# Altium integrated library Linear Technology Power Management Switching Regulator LTC1174-LTC3901.IntLib: 2647 symbols (part 42 of 364)
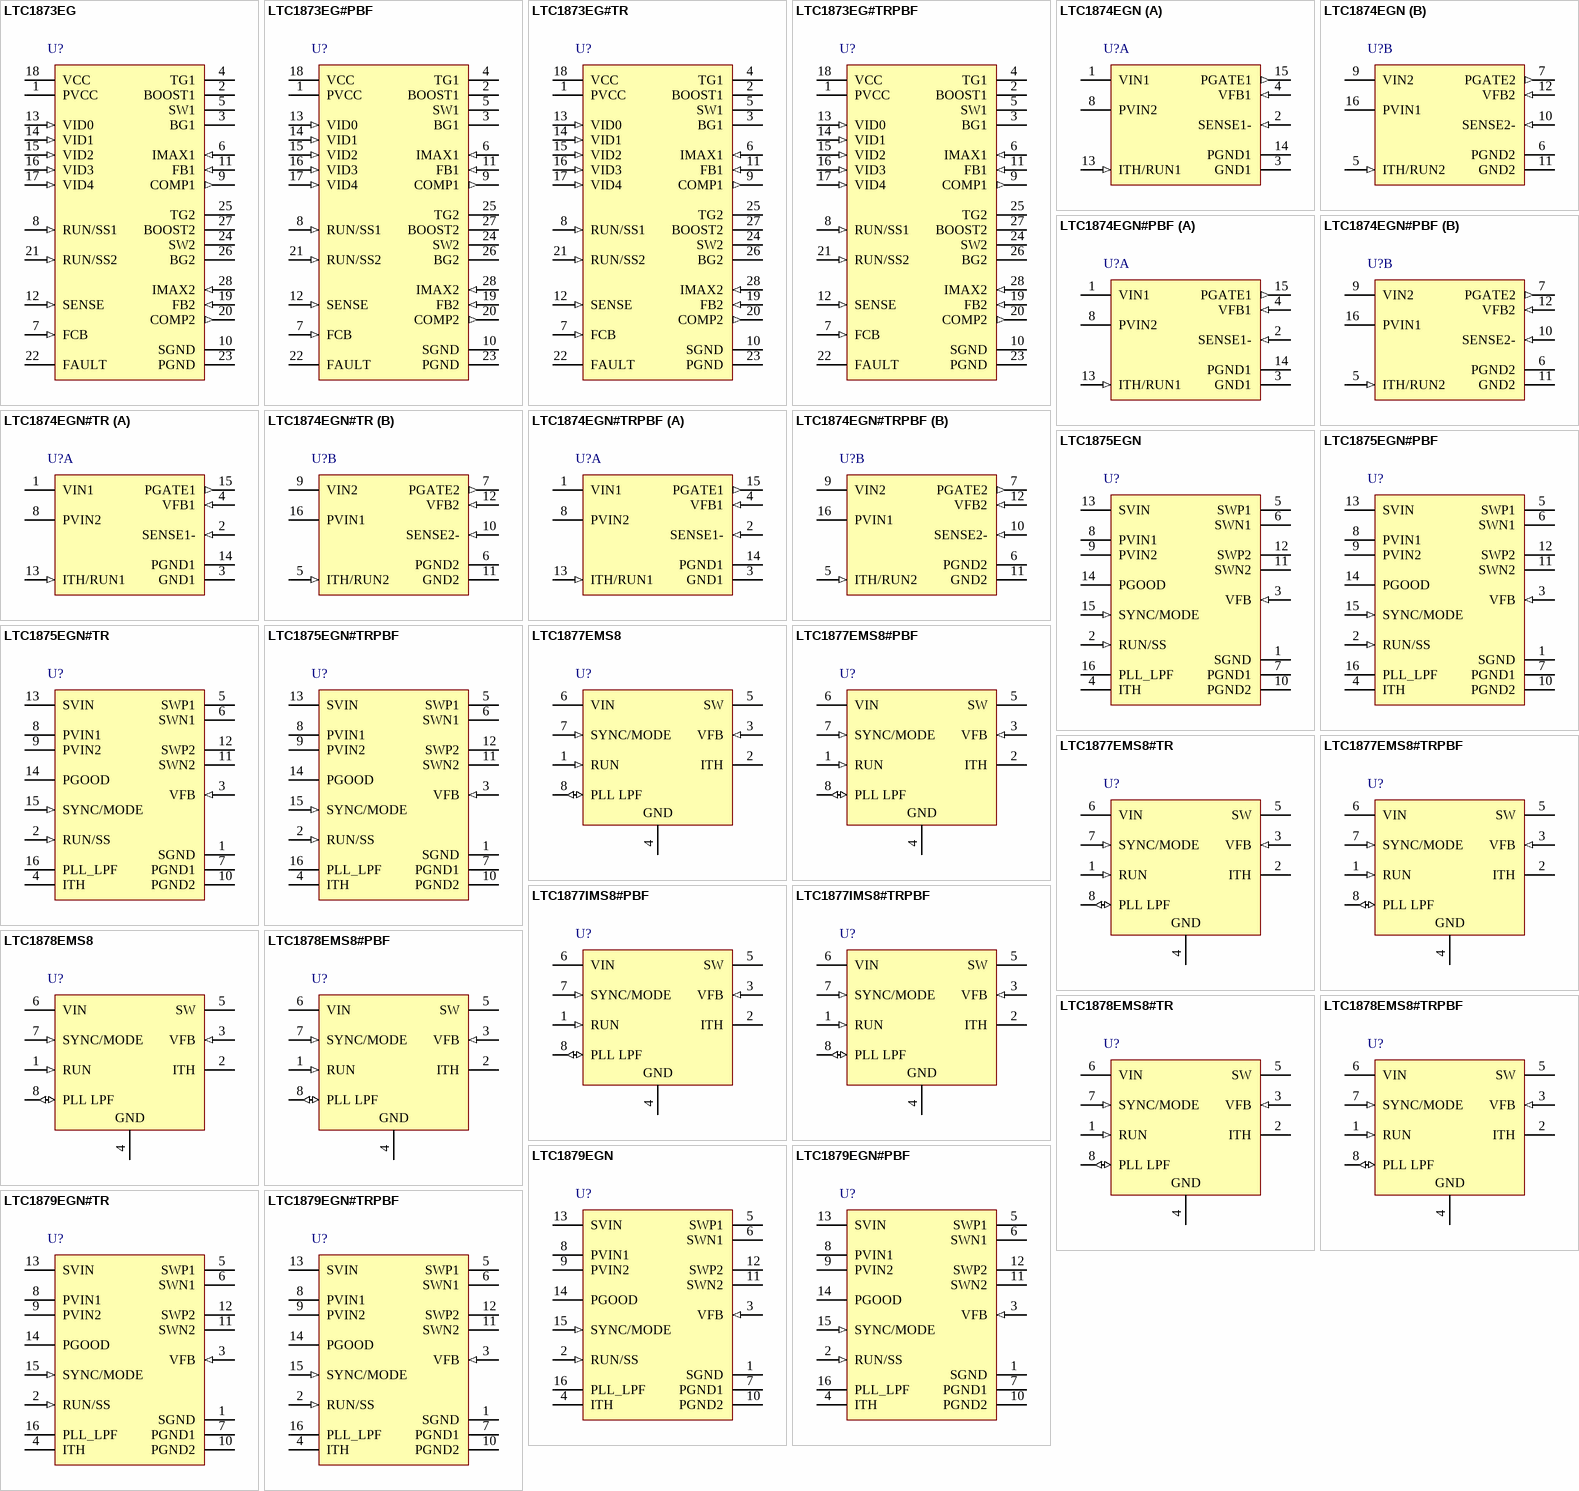
[diagram p137: symbols LTC1873EG to LTC1879EGN#TRPBF]

## LTC1878EMS8
designator U?
High Efficiency Monolithic Synchronous Step-Down Regulator, 8-pin SOP (MS8-8), -40 to 85 degC; Manufacturer: Linear Technology; PartNumber: LTC1878EMS8; Frequency Sync Range: 400kHz - 700kHz; Number of Outputs: 1; PackageVersion: Rev. G, 05/2013; PackageReference: MS8; PackageDescription: 8-Pin Plastic MSOP, Body 3 x 3 mm, Pitch 0.65 mm; Supplier 1: Digi-Key; Supplier Part Number 1: LTC1878EMS8-ND; Supplier 2: Newark; Supplier Part Number 2: 56M4299; RoHS: FALSE; Mounting Technology: Surface Mount; ComponentLink1Description: Manufacturer URL; ComponentLink1URL: http://www.linear.com/; ComponentLink2Description: Datasheet; ComponentLink2URL: http://cds.linear.com/docs/en/datasheet/1878f.pdf; ComponentLink3Description: Package Specification; ComponentLink3URL: http://cds.linear.com/docs/en/packaging/05081660_G_MS8.pdf
footprint LT-MS8_N (SOP, 8-Leads, Body 3.1x3.1mm, Pitch 0.65mm, IPC Medium Density)
footprint LT-MS8_L (SOP, 8-Leads, Body 3.1x3.1mm, Pitch 0.65mm, IPC High Density)
footprint LT-MS8_M (SOP, 8-Leads, Body 3.1x3.1mm, Pitch 0.65mm, IPC Low Density)
pins: 1 RUN (in), 2 ITH "Error Amplifier Compensation Point. The current comparator threshold increases with this control voltage. Nominal voltage range for this pin is from 0.5V to 1.9V", 3 VFB (in) "Feedback Pin. Receives the feedback voltage from an external resistive divider across the output.", 4 GND (power) "Ground Pin.", 5 SW (power) "Switch Node Connection to Inductor. This pin connects to the drains of the internal main and synchronous power MOSFET switches.", 6 VIN (power) "Main Supply Pin. Must be closely decoupled to GND, Pin 4.", 7 SYNC/MODE (in), 8 PLL LPF (io) "Output of the Phase Detector and Control Input of Oscillator. Connect a series RC lowpass network from this pin to ground if externally synchronized. If unused, this pin may be left open."

## LTC1878EMS8#PBF
designator U?
High Efficiency Monolithic Synchronous Step-Down Regulator, 8-pin SOP (MS8-8), -40 to 85 degC, Pb-Free; Manufacturer: Linear Technology; PartNumber: LTC1878EMS8#PBF; Frequency Sync Range: 400kHz - 700kHz; Number of Outputs: 1; PackageVersion: Rev. G, 05/2013; PackageReference: MS8; PackageDescription: 8-Pin Plastic MSOP, Body 3 x 3 mm, Pitch 0.65 mm; Supplier 1: Digi-Key; Supplier Part Number 1: LTC1878EMS8#PBF-ND; Supplier 2: Farnell; Supplier Part Number 2: 1273918; Supplier 3: Newark; Supplier Part Number 3: 56M4300; RoHS: TRUE; Mounting Technology: Surface Mount; ComponentLink1Description: Manufacturer URL; ComponentLink1URL: http://www.linear.com/; ComponentLink2Description: Datasheet; ComponentLink2URL: http://cds.linear.com/docs/en/datasheet/1878f.pdf; ComponentLink3Description: Package Specification; ComponentLink3URL: http://cds.linear.com/docs/en/packaging/05081660_G_MS8.pdf
footprint LT-MS8_N (SOP, 8-Leads, Body 3.1x3.1mm, Pitch 0.65mm, IPC Medium Density)
footprint LT-MS8_L (SOP, 8-Leads, Body 3.1x3.1mm, Pitch 0.65mm, IPC High Density)
footprint LT-MS8_M (SOP, 8-Leads, Body 3.1x3.1mm, Pitch 0.65mm, IPC Low Density)
pins: 1 RUN (in), 2 ITH "Error Amplifier Compensation Point. The current comparator threshold increases with this control voltage. Nominal voltage range for this pin is from 0.5V to 1.9V", 3 VFB (in) "Feedback Pin. Receives the feedback voltage from an external resistive divider across the output.", 4 GND (power) "Ground Pin.", 5 SW (power) "Switch Node Connection to Inductor. This pin connects to the drains of the internal main and synchronous power MOSFET switches.", 6 VIN (power) "Main Supply Pin. Must be closely decoupled to GND, Pin 4.", 7 SYNC/MODE (in), 8 PLL LPF (io) "Output of the Phase Detector and Control Input of Oscillator. Connect a series RC lowpass network from this pin to ground if externally synchronized. If unused, this pin may be left open."

## LTC1878EMS8#TR
designator U?
High Efficiency Monolithic Synchronous Step-Down Regulator, 8-pin SOP (MS8-8), -40 to 85 degC, Tape and Reel; Manufacturer: Linear Technology; PartNumber: LTC1878EMS8#TR; Frequency Sync Range: 400kHz - 700kHz; Number of Outputs: 1; PackageVersion: Rev. G, 05/2013; PackageReference: MS8; PackageDescription: 8-Pin Plastic MSOP, Body 3 x 3 mm, Pitch 0.65 mm; Supplier 1: Digi-Key; Supplier Part Number 1: LTC1878EMS8TR-ND; Packing: Tape and Reel; RoHS: FALSE; Mounting Technology: Surface Mount; ComponentLink1Description: Manufacturer URL; ComponentLink1URL: http://www.linear.com/; ComponentLink2Description: Datasheet; ComponentLink2URL: http://cds.linear.com/docs/en/datasheet/1878f.pdf; ComponentLink3Description: Package Specification; ComponentLink3URL: http://cds.linear.com/docs/en/packaging/05081660_G_MS8.pdf
footprint LT-MS8_N (SOP, 8-Leads, Body 3.1x3.1mm, Pitch 0.65mm, IPC Medium Density)
footprint LT-MS8_L (SOP, 8-Leads, Body 3.1x3.1mm, Pitch 0.65mm, IPC High Density)
footprint LT-MS8_M (SOP, 8-Leads, Body 3.1x3.1mm, Pitch 0.65mm, IPC Low Density)
pins: 1 RUN (in), 2 ITH "Error Amplifier Compensation Point. The current comparator threshold increases with this control voltage. Nominal voltage range for this pin is from 0.5V to 1.9V", 3 VFB (in) "Feedback Pin. Receives the feedback voltage from an external resistive divider across the output.", 4 GND (power) "Ground Pin.", 5 SW (power) "Switch Node Connection to Inductor. This pin connects to the drains of the internal main and synchronous power MOSFET switches.", 6 VIN (power) "Main Supply Pin. Must be closely decoupled to GND, Pin 4.", 7 SYNC/MODE (in), 8 PLL LPF (io) "Output of the Phase Detector and Control Input of Oscillator. Connect a series RC lowpass network from this pin to ground if externally synchronized. If unused, this pin may be left open."

## LTC1878EMS8#TRPBF
designator U?
High Efficiency Monolithic Synchronous Step-Down Regulator, 8-pin SOP (MS8-8), -40 to 85 degC, Pb-Free, Tape and Reel; Manufacturer: Linear Technology; PartNumber: LTC1878EMS8#TRPBF; Frequency Sync Range: 400kHz - 700kHz; Number of Outputs: 1; PackageVersion: Rev. G, 05/2013; PackageReference: MS8; PackageDescription: 8-Pin Plastic MSOP, Body 3 x 3 mm, Pitch 0.65 mm; Supplier 1: Digi-Key; Supplier Part Number 1: LTC1878EMS8#TRPBF-ND; Supplier 2: Newark; Supplier Part Number 2: 56M4302; Packing: Tape and Reel; RoHS: TRUE; Mounting Technology: Surface Mount; ComponentLink1Description: Manufacturer URL; ComponentLink1URL: http://www.linear.com/; ComponentLink2Description: Datasheet; ComponentLink2URL: http://cds.linear.com/docs/en/datasheet/1878f.pdf; ComponentLink3Description: Package Specification; ComponentLink3URL: http://cds.linear.com/docs/en/packaging/05081660_G_MS8.pdf
footprint LT-MS8_N (SOP, 8-Leads, Body 3.1x3.1mm, Pitch 0.65mm, IPC Medium Density)
footprint LT-MS8_L (SOP, 8-Leads, Body 3.1x3.1mm, Pitch 0.65mm, IPC High Density)
footprint LT-MS8_M (SOP, 8-Leads, Body 3.1x3.1mm, Pitch 0.65mm, IPC Low Density)
pins: 1 RUN (in), 2 ITH "Error Amplifier Compensation Point. The current comparator threshold increases with this control voltage. Nominal voltage range for this pin is from 0.5V to 1.9V", 3 VFB (in) "Feedback Pin. Receives the feedback voltage from an external resistive divider across the output.", 4 GND (power) "Ground Pin.", 5 SW (power) "Switch Node Connection to Inductor. This pin connects to the drains of the internal main and synchronous power MOSFET switches.", 6 VIN (power) "Main Supply Pin. Must be closely decoupled to GND, Pin 4.", 7 SYNC/MODE (in), 8 PLL LPF (io) "Output of the Phase Detector and Control Input of Oscillator. Connect a series RC lowpass network from this pin to ground if externally synchronized. If unused, this pin may be left open."

## LTC1879EGN
designator U?
1.2 A Synchronous Step-Down Regulator with 15 uA Quiescent Current, 16-pin SOP (GN-16), -40 to 85 degC; Manufacturer: Linear Technology; PartNumber: LTC1879EGN; Frequency Sync Range: 350kHz - 750kHz; Number of Outputs: 1; PackageVersion: Rev. B, 03/2012; PackageReference: GN-16; PackageDescription: 16-Pin Plastic SSOP, Body 4.9 x 3.9 mm, Pitch 0.635 mm; Supplier 1: Digi-Key; Supplier Part Number 1: LTC1879EGN-ND; RoHS: FALSE; Mounting Technology: Surface Mount; ComponentLink1Description: Manufacturer URL; ComponentLink1URL: http://www.linear.com/; ComponentLink2Description: Datasheet; ComponentLink2URL: http://cds.linear.com/docs/en/datasheet/1879f.pdf; ComponentLink3Description: Package Specification; ComponentLink3URL: http://cds.linear.com/docs/en/packaging/05081641_B_GN16.pdf
footprint LT-GN-16_N (SOP, 16-Leads, Body 5x4mm, Pitch 0.635mm, IPC Medium Density)
footprint LT-GN-16_L (SOP, 16-Leads, Body 5x4mm, Pitch 0.635mm, IPC High Density)
footprint LT-GN-16_M (SOP, 16-Leads, Body 5x4mm, Pitch 0.635mm, IPC Low Density)
pins: 1 SGND (power) "Signal Ground Pin.", 2 RUN/SS (in) "Combination of Soft-Start and Run Control Inputs. Forcing this pin below 0.7V shuts down the device. In shutdown all functions are disabled and device draws zero supply current. For the proper operation of the part, force (See Datasheet)", 3 VFB (in) "Feedback Pin. Receives the feedback voltage from an external resistor divider across the output.", 4 ITH "Error Amplifier Compensation Point. The current output increases with this control voltage. Nominal voltage range for this pin is 0.5V to 1.8V.", 5 SWP1 (power) "Upper Switch Nodes. These pins connect to the drains of the internal main PMOS switches and should always be connected together externally.", 6 SWN1 (power) "Lower Switch Nodes. These pins connect to the drains of the internal synchronous NMOS switches and should always be connected together externally.", 7 PGND1 (power) "Power Ground Pins. Ground pins for the internal drivers and switches. These pins should always be tied together.", 8 PVIN1 (power) "Power Supply Pins for the Internal Drivers and Switches. These pins should always be tied together.", 9 PVIN2 (power) "Power Supply Pins for the Internal Drivers and Switches. These pins should always be tied together.", 10 PGND2 (power) "Power Ground Pins. Ground pins for the internal drivers and switches. These pins should always be tied together.", 11 SWN2 (power) "Lower Switch Nodes. These pins connect to the drains of the internal synchronous NMOS switches and should always be connected together externally.", 12 SWP2 (power) "Upper Switch Nodes. These pins connect to the drains of the internal main PMOS switches and should always be connected together externally.", 13 SVIN (power) "Signal Power Supply Pin.", 14 PGOOD (oc) "Power Good Indicator Pin. Power good is an open-drain logic output. The PGOOD pin is pulled to ground when the voltage on the VFB pin is not within +/-7.5% of its nominally regulated potential. This pin requires a pull-up (See Datasheet)", 15 SYNC/MODE (in) "External Clock Synchronization and Mode Select Input. To synchronize, apply an external clock with a frequency between 350kHz and 750kHz. To select Burst Mode operation, tie pin to SVIN. Grounding this pin selects pulse (See Datasheet)", 16 PLL_LPF "Output of the Phase Detector and Control Input of Oscillator. Connect a series RC lowpass network from this pin to ground if externally synchronized. If unused, this pin may be left open."

## LTC1879EGN#PBF
designator U?
1.2 A Synchronous Step-Down Regulator with 15 uA Quiescent Current, 16-pin SOP (GN-16), -40 to 85 degC, Pb-Free; Manufacturer: Linear Technology; PartNumber: LTC1879EGN#PBF; Frequency Sync Range: 350kHz - 750kHz; Number of Outputs: 1; PackageVersion: Rev. B, 03/2012; PackageReference: GN-16; PackageDescription: 16-Pin Plastic SSOP, Body 4.9 x 3.9 mm, Pitch 0.635 mm; Supplier 1: Digi-Key; Supplier Part Number 1: LTC1879EGN#PBF-ND; Supplier 2: Farnell; Supplier Part Number 2: 1273919; Supplier 3: Newark; Supplier Part Number 3: 56M4304; RoHS: TRUE; Mounting Technology: Surface Mount; ComponentLink1Description: Manufacturer URL; ComponentLink1URL: http://www.linear.com/; ComponentLink2Description: Datasheet; ComponentLink2URL: http://cds.linear.com/docs/en/datasheet/1879f.pdf; ComponentLink3Description: Package Specification; ComponentLink3URL: http://cds.linear.com/docs/en/packaging/05081641_B_GN16.pdf
footprint LT-GN-16_N (SOP, 16-Leads, Body 5x4mm, Pitch 0.635mm, IPC Medium Density)
footprint LT-GN-16_L (SOP, 16-Leads, Body 5x4mm, Pitch 0.635mm, IPC High Density)
footprint LT-GN-16_M (SOP, 16-Leads, Body 5x4mm, Pitch 0.635mm, IPC Low Density)
pins: 1 SGND (power) "Signal Ground Pin.", 2 RUN/SS (in) "Combination of Soft-Start and Run Control Inputs. Forcing this pin below 0.7V shuts down the device. In shutdown all functions are disabled and device draws zero supply current. For the proper operation of the part, force (See Datasheet)", 3 VFB (in) "Feedback Pin. Receives the feedback voltage from an external resistor divider across the output.", 4 ITH "Error Amplifier Compensation Point. The current output increases with this control voltage. Nominal voltage range for this pin is 0.5V to 1.8V.", 5 SWP1 (power) "Upper Switch Nodes. These pins connect to the drains of the internal main PMOS switches and should always be connected together externally.", 6 SWN1 (power) "Lower Switch Nodes. These pins connect to the drains of the internal synchronous NMOS switches and should always be connected together externally.", 7 PGND1 (power) "Power Ground Pins. Ground pins for the internal drivers and switches. These pins should always be tied together.", 8 PVIN1 (power) "Power Supply Pins for the Internal Drivers and Switches. These pins should always be tied together.", 9 PVIN2 (power) "Power Supply Pins for the Internal Drivers and Switches. These pins should always be tied together.", 10 PGND2 (power) "Power Ground Pins. Ground pins for the internal drivers and switches. These pins should always be tied together.", 11 SWN2 (power) "Lower Switch Nodes. These pins connect to the drains of the internal synchronous NMOS switches and should always be connected together externally.", 12 SWP2 (power) "Upper Switch Nodes. These pins connect to the drains of the internal main PMOS switches and should always be connected together externally.", 13 SVIN (power) "Signal Power Supply Pin.", 14 PGOOD (oc) "Power Good Indicator Pin. Power good is an open-drain logic output. The PGOOD pin is pulled to ground when the voltage on the VFB pin is not within +/-7.5% of its nominally regulated potential. This pin requires a pull-up (See Datasheet)", 15 SYNC/MODE (in) "External Clock Synchronization and Mode Select Input. To synchronize, apply an external clock with a frequency between 350kHz and 750kHz. To select Burst Mode operation, tie pin to SVIN. Grounding this pin selects pulse (See Datasheet)", 16 PLL_LPF "Output of the Phase Detector and Control Input of Oscillator. Connect a series RC lowpass network from this pin to ground if externally synchronized. If unused, this pin may be left open."

## LTC1879EGN#TR
designator U?
1.2 A Synchronous Step-Down Regulator with 15 uA Quiescent Current, 16-pin SOP (GN-16), -40 to 85 degC, Tape and Reel; Manufacturer: Linear Technology; PartNumber: LTC1879EGN#TR; Frequency Sync Range: 350kHz - 750kHz; Number of Outputs: 1; PackageVersion: Rev. B, 03/2012; PackageReference: GN-16; PackageDescription: 16-Pin Plastic SSOP, Body 4.9 x 3.9 mm, Pitch 0.635 mm; Supplier 1: Digi-Key; Supplier Part Number 1: LTC1879EGNTR-ND; Packing: Tape and Reel; RoHS: FALSE; Mounting Technology: Surface Mount; ComponentLink1Description: Manufacturer URL; ComponentLink1URL: http://www.linear.com/; ComponentLink2Description: Datasheet; ComponentLink2URL: http://cds.linear.com/docs/en/datasheet/1879f.pdf; ComponentLink3Description: Package Specification; ComponentLink3URL: http://cds.linear.com/docs/en/packaging/05081641_B_GN16.pdf
footprint LT-GN-16_N (SOP, 16-Leads, Body 5x4mm, Pitch 0.635mm, IPC Medium Density)
footprint LT-GN-16_L (SOP, 16-Leads, Body 5x4mm, Pitch 0.635mm, IPC High Density)
footprint LT-GN-16_M (SOP, 16-Leads, Body 5x4mm, Pitch 0.635mm, IPC Low Density)
pins: 1 SGND (power) "Signal Ground Pin.", 2 RUN/SS (in) "Combination of Soft-Start and Run Control Inputs. Forcing this pin below 0.7V shuts down the device. In shutdown all functions are disabled and device draws zero supply current. For the proper operation of the part, force (See Datasheet)", 3 VFB (in) "Feedback Pin. Receives the feedback voltage from an external resistor divider across the output.", 4 ITH "Error Amplifier Compensation Point. The current output increases with this control voltage. Nominal voltage range for this pin is 0.5V to 1.8V.", 5 SWP1 (power) "Upper Switch Nodes. These pins connect to the drains of the internal main PMOS switches and should always be connected together externally.", 6 SWN1 (power) "Lower Switch Nodes. These pins connect to the drains of the internal synchronous NMOS switches and should always be connected together externally.", 7 PGND1 (power) "Power Ground Pins. Ground pins for the internal drivers and switches. These pins should always be tied together.", 8 PVIN1 (power) "Power Supply Pins for the Internal Drivers and Switches. These pins should always be tied together.", 9 PVIN2 (power) "Power Supply Pins for the Internal Drivers and Switches. These pins should always be tied together.", 10 PGND2 (power) "Power Ground Pins. Ground pins for the internal drivers and switches. These pins should always be tied together.", 11 SWN2 (power) "Lower Switch Nodes. These pins connect to the drains of the internal synchronous NMOS switches and should always be connected together externally.", 12 SWP2 (power) "Upper Switch Nodes. These pins connect to the drains of the internal main PMOS switches and should always be connected together externally.", 13 SVIN (power) "Signal Power Supply Pin.", 14 PGOOD (oc) "Power Good Indicator Pin. Power good is an open-drain logic output. The PGOOD pin is pulled to ground when the voltage on the VFB pin is not within +/-7.5% of its nominally regulated potential. This pin requires a pull-up (See Datasheet)", 15 SYNC/MODE (in) "External Clock Synchronization and Mode Select Input. To synchronize, apply an external clock with a frequency between 350kHz and 750kHz. To select Burst Mode operation, tie pin to SVIN. Grounding this pin selects pulse (See Datasheet)", 16 PLL_LPF "Output of the Phase Detector and Control Input of Oscillator. Connect a series RC lowpass network from this pin to ground if externally synchronized. If unused, this pin may be left open."

## LTC1879EGN#TRPBF
designator U?
1.2 A Synchronous Step-Down Regulator with 15 uA Quiescent Current, 16-pin SOP (GN-16), -40 to 85 degC, Pb-Free, Tape and Reel; Manufacturer: Linear Technology; PartNumber: LTC1879EGN#TRPBF; Frequency Sync Range: 350kHz - 750kHz; Number of Outputs: 1; PackageVersion: Rev. B, 03/2012; PackageReference: GN-16; PackageDescription: 16-Pin Plastic SSOP, Body 4.9 x 3.9 mm, Pitch 0.635 mm; Supplier 1: Digi-Key; Supplier Part Number 1: LTC1879EGN#TRPBF-ND; Supplier 2: Newark; Supplier Part Number 2: 56M4306; Packing: Tape and Reel; RoHS: TRUE; Mounting Technology: Surface Mount; ComponentLink1Description: Manufacturer URL; ComponentLink1URL: http://www.linear.com/; ComponentLink2Description: Datasheet; ComponentLink2URL: http://cds.linear.com/docs/en/datasheet/1879f.pdf; ComponentLink3Description: Package Specification; ComponentLink3URL: http://cds.linear.com/docs/en/packaging/05081641_B_GN16.pdf
footprint LT-GN-16_N (SOP, 16-Leads, Body 5x4mm, Pitch 0.635mm, IPC Medium Density)
footprint LT-GN-16_L (SOP, 16-Leads, Body 5x4mm, Pitch 0.635mm, IPC High Density)
footprint LT-GN-16_M (SOP, 16-Leads, Body 5x4mm, Pitch 0.635mm, IPC Low Density)
pins: 1 SGND (power) "Signal Ground Pin.", 2 RUN/SS (in) "Combination of Soft-Start and Run Control Inputs. Forcing this pin below 0.7V shuts down the device. In shutdown all functions are disabled and device draws zero supply current. For the proper operation of the part, force (See Datasheet)", 3 VFB (in) "Feedback Pin. Receives the feedback voltage from an external resistor divider across the output.", 4 ITH "Error Amplifier Compensation Point. The current output increases with this control voltage. Nominal voltage range for this pin is 0.5V to 1.8V.", 5 SWP1 (power) "Upper Switch Nodes. These pins connect to the drains of the internal main PMOS switches and should always be connected together externally.", 6 SWN1 (power) "Lower Switch Nodes. These pins connect to the drains of the internal synchronous NMOS switches and should always be connected together externally.", 7 PGND1 (power) "Power Ground Pins. Ground pins for the internal drivers and switches. These pins should always be tied together.", 8 PVIN1 (power) "Power Supply Pins for the Internal Drivers and Switches. These pins should always be tied together.", 9 PVIN2 (power) "Power Supply Pins for the Internal Drivers and Switches. These pins should always be tied together.", 10 PGND2 (power) "Power Ground Pins. Ground pins for the internal drivers and switches. These pins should always be tied together.", 11 SWN2 (power) "Lower Switch Nodes. These pins connect to the drains of the internal synchronous NMOS switches and should always be connected together externally.", 12 SWP2 (power) "Upper Switch Nodes. These pins connect to the drains of the internal main PMOS switches and should always be connected together externally.", 13 SVIN (power) "Signal Power Supply Pin.", 14 PGOOD (oc) "Power Good Indicator Pin. Power good is an open-drain logic output. The PGOOD pin is pulled to ground when the voltage on the VFB pin is not within +/-7.5% of its nominally regulated potential. This pin requires a pull-up (See Datasheet)", 15 SYNC/MODE (in) "External Clock Synchronization and Mode Select Input. To synchronize, apply an external clock with a frequency between 350kHz and 750kHz. To select Burst Mode operation, tie pin to SVIN. Grounding this pin selects pulse (See Datasheet)", 16 PLL_LPF "Output of the Phase Detector and Control Input of Oscillator. Connect a series RC lowpass network from this pin to ground if externally synchronized. If unused, this pin may be left open."

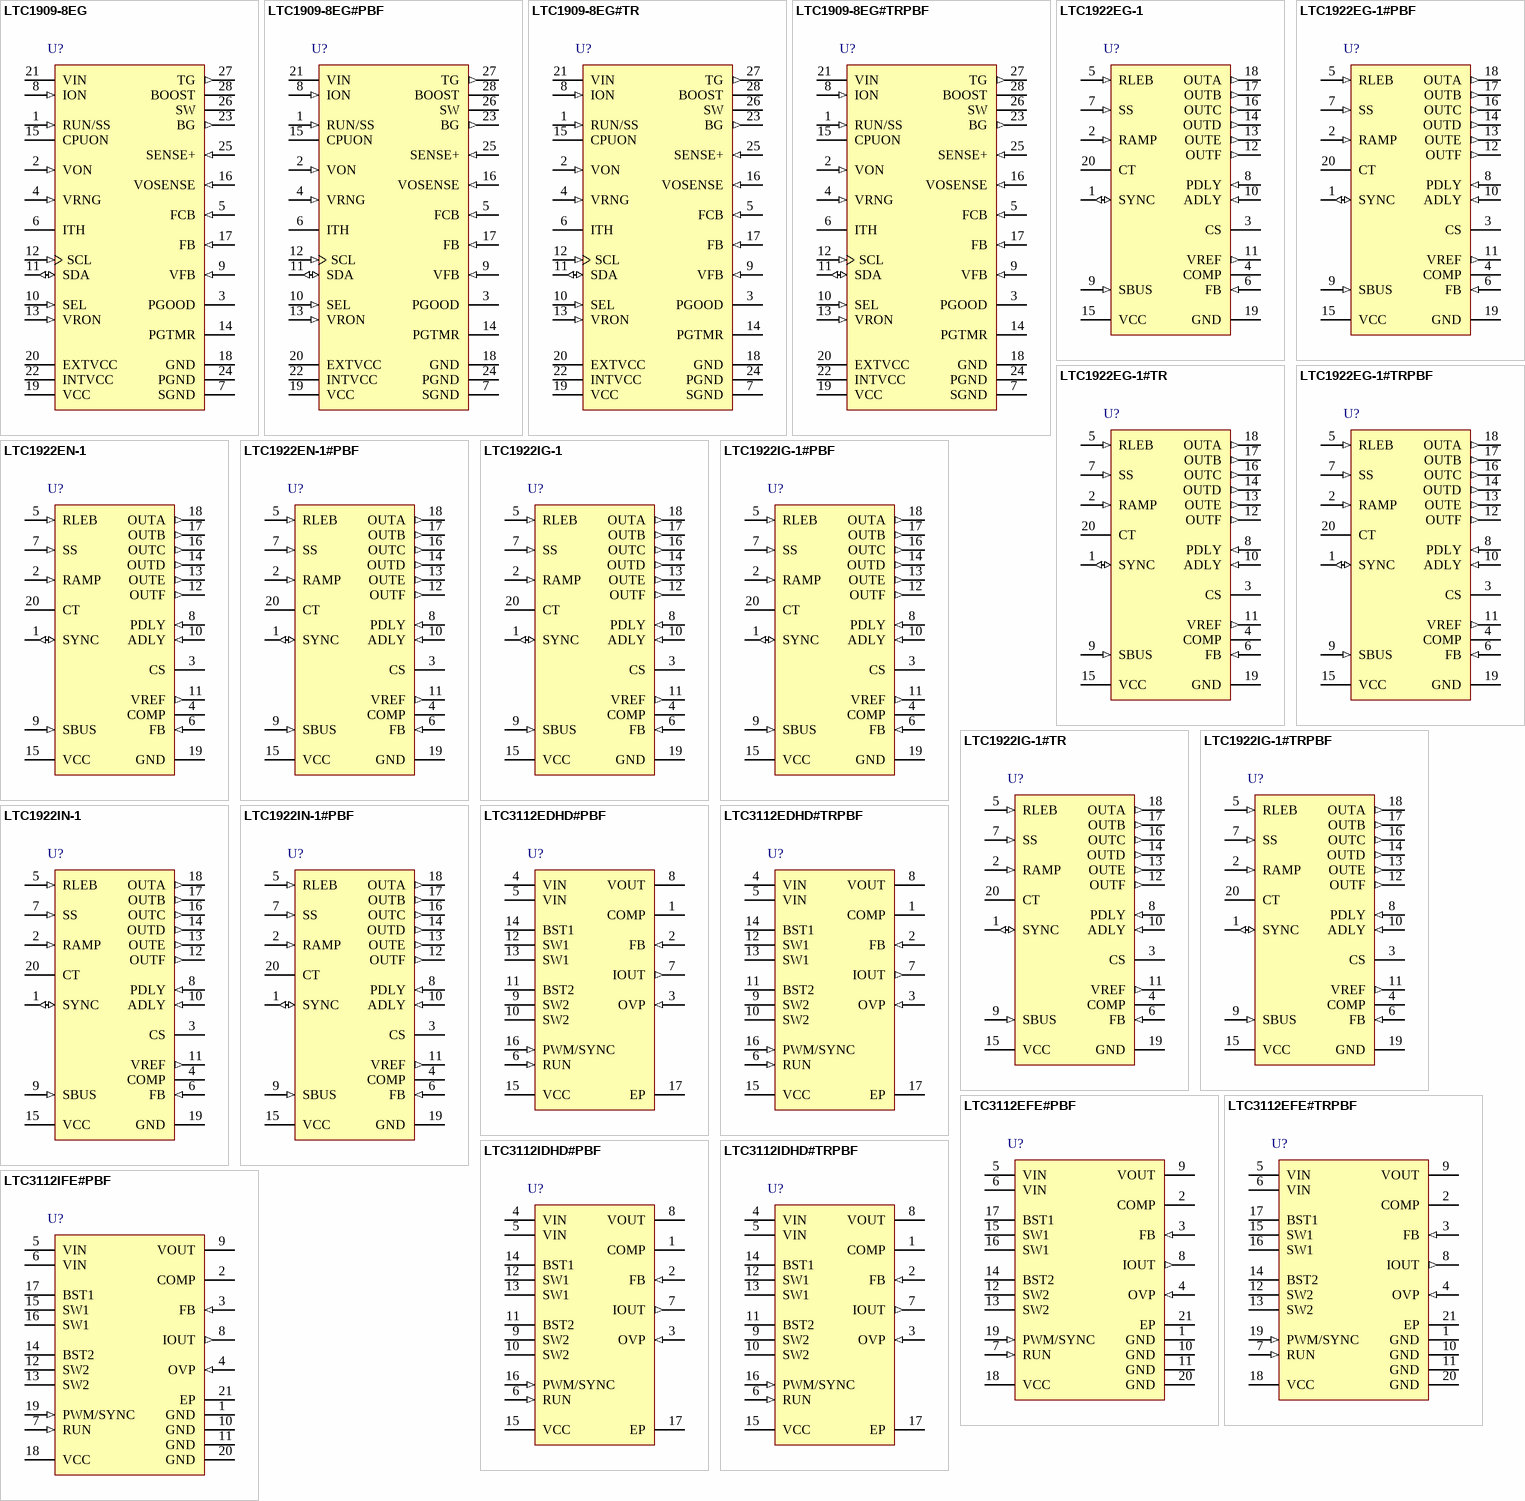
[diagram p13: symbols LTC1909-8EG to LTC3112IFE#PBF]

## LTC1909-8EG
designator U?
Wide Operating Range, No Rsense Step-Down DC/DC Controller with SMBus Programming, 28-pin SOP (G-28), -40 to 85 degC; Manufacturer: Linear Technology; PartNumber: LTC1909-8EG; Number of Outputs: 1; PackageVersion: Jun-10; PackageReference: G-28; PackageDescription: 28-Pin Plastic SSOP, Body 10.2 x 5.3 mm, Pitch 0.65 mm; Supplier 1: Digi-Key; Supplier Part Number 1: LTC1909-8EG-ND; RoHS: FALSE; Mounting Technology: Surface Mount; ComponentLink1Description: Manufacturer URL; ComponentLink1URL: http://www.linear.com/; ComponentLink2Description: Datasheet; ComponentLink2URL: http://cds.linear.com/docs/en/datasheet/19098f.pdf; ComponentLink3Description: Package Specification; ComponentLink3URL: http://cds.linear.com/docs/en/packaging/SSOP_28_05-08-1640.pdf
footprint LT-G-28_N (SOP, 28-Leads, Body 10.2x5.3mm, Pitch 0.65mm, IPC Medium Density)
footprint LT-G-28_L (SOP, 28-Leads, Body 10.2x5.3mm, Pitch 0.65mm, IPC High Density)
footprint LT-G-28_M (SOP, 28-Leads, Body 10.2x5.3mm, Pitch 0.65mm, IPC Low Density)
pins: 1 RUN/SS (in) "Run Control and Soft-Start Input. A capacitor to ground at this pin sets the ramp time to full output current (approximately 3s/uF) and the time delay for overcurrent latchoff (see Applications Information). Forcing this pin (See Datasheet)", 2 VON (in) "On-Time Voltage Input. Voltage trip point for the on-time comparator. Tying this pin to the output voltage makes the on-time proportional to VOUT. The comparator input defaults to 0.7V when the pin is grounded and 2.4V when (See Datasheet)", 3 PGOOD (oc) "Power Good Output. Open-drain logic output that is pulled to ground when the output voltage is not within +/-7.5% of the regulation point.", 4 VRNG (in) "Sense Voltage Range Input. The voltage at this pin is ten times the nominal sense voltage at maximum output current and can be set from 0.5V to 2V by a resistive divider from INTVCC. The nominal sense voltage defaults to (See Datasheet)", 5 FCB (in) "Forced Continuous Input. Tie this pin to ground to force continuous synchronous operation at low load, to INTVCC to enable discontinuous mode operation at low load or to a resistive divider from a secondary output when using (See Datasheet)", 6 ITH "Current Control Threshold and Error Amplifier Compensation Point. The current comparator threshold increases with this control voltage. The voltage ranges from 0V to 2.4V with 0.8V corresponding to zero sense voltage (zero (See Datasheet)", 7 SGND (power) "Signal Ground. All small-signal components and compensation components should connect to this ground, which in turn connects to PGND at one point.", 8 ION (in) "On-Time Current Input. Tie a resistor from VIN to this pin to set the one-shot timer current and thereby set the switching frequency.", 9 VFB (in) "Error Amplifier Feedback Input. This pin connects to the error amplifier input to the center tap of the SMBus programmable divider at the FB pin (Pin 17).", 10 SEL (in) "Register Select Input. A TTL compatible logic input pin that is used to select 1 of 2 resistor divider settings. SEL selects the setting in Register 0 if pulled low and the setting in Register 1 if pulled high.", 11 SDA (io) "SMBus Data Input/Output. SDA is a high impedance input when address, command or data bits are shifted into the SMBus interface. It is an open-drain N-channel output when acknowledging or sending data back to the (See Datasheet)", 12 SCL (in) "SMBus Clock Input. Data at the SDA pin is latched into the LTC1909-8 SMBus interface at the rising edge of the clock and is shifted out of the SDA pin at the falling edge of the clock. SCL is a high impedance input pin. It (See Datasheet)", 13 VRON (in) "Global Control Input. This TTL compatible input pin is pulled up internally by a 2.5uA current source. Pulling VRON low forces the open-drain output pins (CPUON and PGTMR) to pull to ground. If the LTC1909-8 is programmed to (See Datasheet)", 14 PGTMR (oc) "Power Good Timer Output. This opendrain output is pulled low for 50ms each time the switching regulator is turned on or SEL is toggled to select a new code. PGTMR may be connected to the FCB pin to force the converter into (See Datasheet)", 15 CPUON (hiz) "CPU DC/DC Converter Control. Opendrain output, usually connected to the RUN/SS pin. It pulls low to shut down the converter or becomes high impedance to allow the converter to soft-start.", 16 VOSENSE (in) "Sense Input. Upper terminal of the SMBus programmable resistor divider that is connected directly to the regulated output voltage node.", 17 FB (in) "Feedback Input. Center tap of the SMBus programmable divider that is connected to Pin 9.", 18 GND (power) "SMBus Programmer Ground. Connect to regulator signal ground at Pin 7.", 19 VCC (power) "Positive Supply of the SMBus VID Programmer. 2.7V <= VCC <= 5.5V. May be connected to the INTVCC pin. Bypass this pin to ground with a 0.1uF ceramic capacitor if using an external supply.", 20 EXTVCC (power) "External VCC Input. When EXTVCC exceeds 4.7V, an internal switch connects this pin to INTVCC and shuts down the internal regulator so that controller and gate drive power is drawn from EXTVCC. Do not exceed 7V at this pin (See Datasheet)", 21 VIN (power) "Main Input Supply. Decouple this pin to PGND with an RC filter (1ohm, 0.1uF).", 22 INTVCC (power) "Internal 5V Regulator Output. The driver and control circuits are powered from this voltage. Decouple this pin to power ground with a minimum of 4.7uF low ESR tantalum or other low ESR capacitor. The internal 5V regulator is (See Datasheet)", 23 BG (out) "Bottom Gate Drive. Drives the gate of the bottom N-channel MOSFET between ground and INTVCC.", 24 PGND (power) "Power Ground. Connect this pin closely to the source of the bottom N-channel MOSFET, the (-) terminal of CVCC and the (-) terminal of CIN.", 25 SENSE+ (in) "Current Sense Comparator Input. The (+) input to the current comparator is normally connected to the SW pin unless using a sense resistor (see Applications Information).", 26 SW "Switch Node. The (-) terminal of the bootstrap capacitor CB connects here. This pin swings from a diode voltage drop below ground up to VIN.", 27 TG (out) "Top Gate Drive. Drives the top N-channel MOSFET with a voltage swing equal to INTVCC superimposed on the switch node voltage SW.", 28 BOOST "Boosted Floating Driver Supply. The (+) terminal of the bootstrap capacitor CB connects here. This pin swings from a diode voltage drop below INTVCC up to VIN + INTVCC."

## LTC1909-8EG#PBF
designator U?
Wide Operating Range, No Rsense Step-Down DC/DC Controller with SMBus Programming, 28-pin SOP (G-28), -40 to 85 degC, Pb-Free; Manufacturer: Linear Technology; PartNumber: LTC1909-8EG#PBF; Number of Outputs: 1; PackageVersion: Jun-10; PackageReference: G-28; PackageDescription: 28-Pin Plastic SSOP, Body 10.2 x 5.3 mm, Pitch 0.65 mm; Supplier 1: Digi-Key; Supplier Part Number 1: LTC1909-8EG#PBF-ND; Supplier 2: Newark; Supplier Part Number 2: 56M4308; RoHS: TRUE; Mounting Technology: Surface Mount; ComponentLink1Description: Manufacturer URL; ComponentLink1URL: http://www.linear.com/; ComponentLink2Description: Datasheet; ComponentLink2URL: http://cds.linear.com/docs/en/datasheet/19098f.pdf; ComponentLink3Description: Package Specification; ComponentLink3URL: http://cds.linear.com/docs/en/packaging/SSOP_28_05-08-1640.pdf
footprint LT-G-28_N (SOP, 28-Leads, Body 10.2x5.3mm, Pitch 0.65mm, IPC Medium Density)
footprint LT-G-28_L (SOP, 28-Leads, Body 10.2x5.3mm, Pitch 0.65mm, IPC High Density)
footprint LT-G-28_M (SOP, 28-Leads, Body 10.2x5.3mm, Pitch 0.65mm, IPC Low Density)
pins: 1 RUN/SS (in) "Run Control and Soft-Start Input. A capacitor to ground at this pin sets the ramp time to full output current (approximately 3s/uF) and the time delay for overcurrent latchoff (see Applications Information). Forcing this pin (See Datasheet)", 2 VON (in) "On-Time Voltage Input. Voltage trip point for the on-time comparator. Tying this pin to the output voltage makes the on-time proportional to VOUT. The comparator input defaults to 0.7V when the pin is grounded and 2.4V when (See Datasheet)", 3 PGOOD (oc) "Power Good Output. Open-drain logic output that is pulled to ground when the output voltage is not within +/-7.5% of the regulation point.", 4 VRNG (in) "Sense Voltage Range Input. The voltage at this pin is ten times the nominal sense voltage at maximum output current and can be set from 0.5V to 2V by a resistive divider from INTVCC. The nominal sense voltage defaults to (See Datasheet)", 5 FCB (in) "Forced Continuous Input. Tie this pin to ground to force continuous synchronous operation at low load, to INTVCC to enable discontinuous mode operation at low load or to a resistive divider from a secondary output when using (See Datasheet)", 6 ITH "Current Control Threshold and Error Amplifier Compensation Point. The current comparator threshold increases with this control voltage. The voltage ranges from 0V to 2.4V with 0.8V corresponding to zero sense voltage (zero (See Datasheet)", 7 SGND (power) "Signal Ground. All small-signal components and compensation components should connect to this ground, which in turn connects to PGND at one point.", 8 ION (in) "On-Time Current Input. Tie a resistor from VIN to this pin to set the one-shot timer current and thereby set the switching frequency.", 9 VFB (in) "Error Amplifier Feedback Input. This pin connects to the error amplifier input to the center tap of the SMBus programmable divider at the FB pin (Pin 17).", 10 SEL (in) "Register Select Input. A TTL compatible logic input pin that is used to select 1 of 2 resistor divider settings. SEL selects the setting in Register 0 if pulled low and the setting in Register 1 if pulled high.", 11 SDA (io) "SMBus Data Input/Output. SDA is a high impedance input when address, command or data bits are shifted into the SMBus interface. It is an open-drain N-channel output when acknowledging or sending data back to the (See Datasheet)", 12 SCL (in) "SMBus Clock Input. Data at the SDA pin is latched into the LTC1909-8 SMBus interface at the rising edge of the clock and is shifted out of the SDA pin at the falling edge of the clock. SCL is a high impedance input pin. It (See Datasheet)", 13 VRON (in) "Global Control Input. This TTL compatible input pin is pulled up internally by a 2.5uA current source. Pulling VRON low forces the open-drain output pins (CPUON and PGTMR) to pull to ground. If the LTC1909-8 is programmed to (See Datasheet)", 14 PGTMR (oc) "Power Good Timer Output. This opendrain output is pulled low for 50ms each time the switching regulator is turned on or SEL is toggled to select a new code. PGTMR may be connected to the FCB pin to force the converter into (See Datasheet)", 15 CPUON (hiz) "CPU DC/DC Converter Control. Opendrain output, usually connected to the RUN/SS pin. It pulls low to shut down the converter or becomes high impedance to allow the converter to soft-start.", 16 VOSENSE (in) "Sense Input. Upper terminal of the SMBus programmable resistor divider that is connected directly to the regulated output voltage node.", 17 FB (in) "Feedback Input. Center tap of the SMBus programmable divider that is connected to Pin 9.", 18 GND (power) "SMBus Programmer Ground. Connect to regulator signal ground at Pin 7.", 19 VCC (power) "Positive Supply of the SMBus VID Programmer. 2.7V <= VCC <= 5.5V. May be connected to the INTVCC pin. Bypass this pin to ground with a 0.1uF ceramic capacitor if using an external supply.", 20 EXTVCC (power) "External VCC Input. When EXTVCC exceeds 4.7V, an internal switch connects this pin to INTVCC and shuts down the internal regulator so that controller and gate drive power is drawn from EXTVCC. Do not exceed 7V at this pin (See Datasheet)", 21 VIN (power) "Main Input Supply. Decouple this pin to PGND with an RC filter (1ohm, 0.1uF).", 22 INTVCC (power) "Internal 5V Regulator Output. The driver and control circuits are powered from this voltage. Decouple this pin to power ground with a minimum of 4.7uF low ESR tantalum or other low ESR capacitor. The internal 5V regulator is (See Datasheet)", 23 BG (out) "Bottom Gate Drive. Drives the gate of the bottom N-channel MOSFET between ground and INTVCC.", 24 PGND (power) "Power Ground. Connect this pin closely to the source of the bottom N-channel MOSFET, the (-) terminal of CVCC and the (-) terminal of CIN.", 25 SENSE+ (in) "Current Sense Comparator Input. The (+) input to the current comparator is normally connected to the SW pin unless using a sense resistor (see Applications Information).", 26 SW "Switch Node. The (-) terminal of the bootstrap capacitor CB connects here. This pin swings from a diode voltage drop below ground up to VIN.", 27 TG (out) "Top Gate Drive. Drives the top N-channel MOSFET with a voltage swing equal to INTVCC superimposed on the switch node voltage SW.", 28 BOOST "Boosted Floating Driver Supply. The (+) terminal of the bootstrap capacitor CB connects here. This pin swings from a diode voltage drop below INTVCC up to VIN + INTVCC."

## LTC1909-8EG#TR
designator U?
Wide Operating Range, No Rsense Step-Down DC/DC Controller with SMBus Programming, 28-pin SOP (G-28), -40 to 85 degC, Tape and Reel; Manufacturer: Linear Technology; PartNumber: LTC1909-8EG#TR; Number of Outputs: 1; PackageVersion: Jun-10; PackageReference: G-28; PackageDescription: 28-Pin Plastic SSOP, Body 10.2 x 5.3 mm, Pitch 0.65 mm; Supplier 1: Digi-Key; Supplier Part Number 1: LTC1909-8EGTR-ND; Packing: Tape and Reel; RoHS: FALSE; Mounting Technology: Surface Mount; ComponentLink1Description: Manufacturer URL; ComponentLink1URL: http://www.linear.com/; ComponentLink2Description: Datasheet; ComponentLink2URL: http://cds.linear.com/docs/en/datasheet/19098f.pdf; ComponentLink3Description: Package Specification; ComponentLink3URL: http://cds.linear.com/docs/en/packaging/SSOP_28_05-08-1640.pdf
footprint LT-G-28_N (SOP, 28-Leads, Body 10.2x5.3mm, Pitch 0.65mm, IPC Medium Density)
footprint LT-G-28_L (SOP, 28-Leads, Body 10.2x5.3mm, Pitch 0.65mm, IPC High Density)
footprint LT-G-28_M (SOP, 28-Leads, Body 10.2x5.3mm, Pitch 0.65mm, IPC Low Density)
pins: 1 RUN/SS (in) "Run Control and Soft-Start Input. A capacitor to ground at this pin sets the ramp time to full output current (approximately 3s/uF) and the time delay for overcurrent latchoff (see Applications Information). Forcing this pin (See Datasheet)", 2 VON (in) "On-Time Voltage Input. Voltage trip point for the on-time comparator. Tying this pin to the output voltage makes the on-time proportional to VOUT. The comparator input defaults to 0.7V when the pin is grounded and 2.4V when (See Datasheet)", 3 PGOOD (oc) "Power Good Output. Open-drain logic output that is pulled to ground when the output voltage is not within +/-7.5% of the regulation point.", 4 VRNG (in) "Sense Voltage Range Input. The voltage at this pin is ten times the nominal sense voltage at maximum output current and can be set from 0.5V to 2V by a resistive divider from INTVCC. The nominal sense voltage defaults to (See Datasheet)", 5 FCB (in) "Forced Continuous Input. Tie this pin to ground to force continuous synchronous operation at low load, to INTVCC to enable discontinuous mode operation at low load or to a resistive divider from a secondary output when using (See Datasheet)", 6 ITH "Current Control Threshold and Error Amplifier Compensation Point. The current comparator threshold increases with this control voltage. The voltage ranges from 0V to 2.4V with 0.8V corresponding to zero sense voltage (zero (See Datasheet)", 7 SGND (power) "Signal Ground. All small-signal components and compensation components should connect to this ground, which in turn connects to PGND at one point.", 8 ION (in) "On-Time Current Input. Tie a resistor from VIN to this pin to set the one-shot timer current and thereby set the switching frequency.", 9 VFB (in) "Error Amplifier Feedback Input. This pin connects to the error amplifier input to the center tap of the SMBus programmable divider at the FB pin (Pin 17).", 10 SEL (in) "Register Select Input. A TTL compatible logic input pin that is used to select 1 of 2 resistor divider settings. SEL selects the setting in Register 0 if pulled low and the setting in Register 1 if pulled high.", 11 SDA (io) "SMBus Data Input/Output. SDA is a high impedance input when address, command or data bits are shifted into the SMBus interface. It is an open-drain N-channel output when acknowledging or sending data back to the (See Datasheet)", 12 SCL (in) "SMBus Clock Input. Data at the SDA pin is latched into the LTC1909-8 SMBus interface at the rising edge of the clock and is shifted out of the SDA pin at the falling edge of the clock. SCL is a high impedance input pin. It (See Datasheet)", 13 VRON (in) "Global Control Input. This TTL compatible input pin is pulled up internally by a 2.5uA current source. Pulling VRON low forces the open-drain output pins (CPUON and PGTMR) to pull to ground. If the LTC1909-8 is programmed to (See Datasheet)", 14 PGTMR (oc) "Power Good Timer Output. This opendrain output is pulled low for 50ms each time the switching regulator is turned on or SEL is toggled to select a new code. PGTMR may be connected to the FCB pin to force the converter into (See Datasheet)", 15 CPUON (hiz) "CPU DC/DC Converter Control. Opendrain output, usually connected to the RUN/SS pin. It pulls low to shut down the converter or becomes high impedance to allow the converter to soft-start.", 16 VOSENSE (in) "Sense Input. Upper terminal of the SMBus programmable resistor divider that is connected directly to the regulated output voltage node.", 17 FB (in) "Feedback Input. Center tap of the SMBus programmable divider that is connected to Pin 9.", 18 GND (power) "SMBus Programmer Ground. Connect to regulator signal ground at Pin 7.", 19 VCC (power) "Positive Supply of the SMBus VID Programmer. 2.7V <= VCC <= 5.5V. May be connected to the INTVCC pin. Bypass this pin to ground with a 0.1uF ceramic capacitor if using an external supply.", 20 EXTVCC (power) "External VCC Input. When EXTVCC exceeds 4.7V, an internal switch connects this pin to INTVCC and shuts down the internal regulator so that controller and gate drive power is drawn from EXTVCC. Do not exceed 7V at this pin (See Datasheet)", 21 VIN (power) "Main Input Supply. Decouple this pin to PGND with an RC filter (1ohm, 0.1uF).", 22 INTVCC (power) "Internal 5V Regulator Output. The driver and control circuits are powered from this voltage. Decouple this pin to power ground with a minimum of 4.7uF low ESR tantalum or other low ESR capacitor. The internal 5V regulator is (See Datasheet)", 23 BG (out) "Bottom Gate Drive. Drives the gate of the bottom N-channel MOSFET between ground and INTVCC.", 24 PGND (power) "Power Ground. Connect this pin closely to the source of the bottom N-channel MOSFET, the (-) terminal of CVCC and the (-) terminal of CIN.", 25 SENSE+ (in) "Current Sense Comparator Input. The (+) input to the current comparator is normally connected to the SW pin unless using a sense resistor (see Applications Information).", 26 SW "Switch Node. The (-) terminal of the bootstrap capacitor CB connects here. This pin swings from a diode voltage drop below ground up to VIN.", 27 TG (out) "Top Gate Drive. Drives the top N-channel MOSFET with a voltage swing equal to INTVCC superimposed on the switch node voltage SW.", 28 BOOST "Boosted Floating Driver Supply. The (+) terminal of the bootstrap capacitor CB connects here. This pin swings from a diode voltage drop below INTVCC up to VIN + INTVCC."

## LTC1909-8EG#TRPBF
designator U?
Wide Operating Range, No Rsense Step-Down DC/DC Controller with SMBus Programming, 28-pin SOP (G-28), -40 to 85 degC, Pb-Free, Tape and Reel; Manufacturer: Linear Technology; PartNumber: LTC1909-8EG#TRPBF; Number of Outputs: 1; PackageVersion: Jun-10; PackageReference: G-28; PackageDescription: 28-Pin Plastic SSOP, Body 10.2 x 5.3 mm, Pitch 0.65 mm; Supplier 1: Digi-Key; Supplier Part Number 1: LTC1909-8EG#TRPBF-ND; Packing: Tape and Reel; RoHS: TRUE; Mounting Technology: Surface Mount; ComponentLink1Description: Manufacturer URL; ComponentLink1URL: http://www.linear.com/; ComponentLink2Description: Datasheet; ComponentLink2URL: http://cds.linear.com/docs/en/datasheet/19098f.pdf; ComponentLink3Description: Package Specification; ComponentLink3URL: http://cds.linear.com/docs/en/packaging/SSOP_28_05-08-1640.pdf
footprint LT-G-28_N (SOP, 28-Leads, Body 10.2x5.3mm, Pitch 0.65mm, IPC Medium Density)
footprint LT-G-28_L (SOP, 28-Leads, Body 10.2x5.3mm, Pitch 0.65mm, IPC High Density)
footprint LT-G-28_M (SOP, 28-Leads, Body 10.2x5.3mm, Pitch 0.65mm, IPC Low Density)
pins: 1 RUN/SS (in) "Run Control and Soft-Start Input. A capacitor to ground at this pin sets the ramp time to full output current (approximately 3s/uF) and the time delay for overcurrent latchoff (see Applications Information). Forcing this pin (See Datasheet)", 2 VON (in) "On-Time Voltage Input. Voltage trip point for the on-time comparator. Tying this pin to the output voltage makes the on-time proportional to VOUT. The comparator input defaults to 0.7V when the pin is grounded and 2.4V when (See Datasheet)", 3 PGOOD (oc) "Power Good Output. Open-drain logic output that is pulled to ground when the output voltage is not within +/-7.5% of the regulation point.", 4 VRNG (in) "Sense Voltage Range Input. The voltage at this pin is ten times the nominal sense voltage at maximum output current and can be set from 0.5V to 2V by a resistive divider from INTVCC. The nominal sense voltage defaults to (See Datasheet)", 5 FCB (in) "Forced Continuous Input. Tie this pin to ground to force continuous synchronous operation at low load, to INTVCC to enable discontinuous mode operation at low load or to a resistive divider from a secondary output when using (See Datasheet)", 6 ITH "Current Control Threshold and Error Amplifier Compensation Point. The current comparator threshold increases with this control voltage. The voltage ranges from 0V to 2.4V with 0.8V corresponding to zero sense voltage (zero (See Datasheet)", 7 SGND (power) "Signal Ground. All small-signal components and compensation components should connect to this ground, which in turn connects to PGND at one point.", 8 ION (in) "On-Time Current Input. Tie a resistor from VIN to this pin to set the one-shot timer current and thereby set the switching frequency.", 9 VFB (in) "Error Amplifier Feedback Input. This pin connects to the error amplifier input to the center tap of the SMBus programmable divider at the FB pin (Pin 17).", 10 SEL (in) "Register Select Input. A TTL compatible logic input pin that is used to select 1 of 2 resistor divider settings. SEL selects the setting in Register 0 if pulled low and the setting in Register 1 if pulled high.", 11 SDA (io) "SMBus Data Input/Output. SDA is a high impedance input when address, command or data bits are shifted into the SMBus interface. It is an open-drain N-channel output when acknowledging or sending data back to the (See Datasheet)", 12 SCL (in) "SMBus Clock Input. Data at the SDA pin is latched into the LTC1909-8 SMBus interface at the rising edge of the clock and is shifted out of the SDA pin at the falling edge of the clock. SCL is a high impedance input pin. It (See Datasheet)", 13 VRON (in) "Global Control Input. This TTL compatible input pin is pulled up internally by a 2.5uA current source. Pulling VRON low forces the open-drain output pins (CPUON and PGTMR) to pull to ground. If the LTC1909-8 is programmed to (See Datasheet)", 14 PGTMR (oc) "Power Good Timer Output. This opendrain output is pulled low for 50ms each time the switching regulator is turned on or SEL is toggled to select a new code. PGTMR may be connected to the FCB pin to force the converter into (See Datasheet)", 15 CPUON (hiz) "CPU DC/DC Converter Control. Opendrain output, usually connected to the RUN/SS pin. It pulls low to shut down the converter or becomes high impedance to allow the converter to soft-start.", 16 VOSENSE (in) "Sense Input. Upper terminal of the SMBus programmable resistor divider that is connected directly to the regulated output voltage node.", 17 FB (in) "Feedback Input. Center tap of the SMBus programmable divider that is connected to Pin 9.", 18 GND (power) "SMBus Programmer Ground. Connect to regulator signal ground at Pin 7.", 19 VCC (power) "Positive Supply of the SMBus VID Programmer. 2.7V <= VCC <= 5.5V. May be connected to the INTVCC pin. Bypass this pin to ground with a 0.1uF ceramic capacitor if using an external supply.", 20 EXTVCC (power) "External VCC Input. When EXTVCC exceeds 4.7V, an internal switch connects this pin to INTVCC and shuts down the internal regulator so that controller and gate drive power is drawn from EXTVCC. Do not exceed 7V at this pin (See Datasheet)", 21 VIN (power) "Main Input Supply. Decouple this pin to PGND with an RC filter (1ohm, 0.1uF).", 22 INTVCC (power) "Internal 5V Regulator Output. The driver and control circuits are powered from this voltage. Decouple this pin to power ground with a minimum of 4.7uF low ESR tantalum or other low ESR capacitor. The internal 5V regulator is (See Datasheet)", 23 BG (out) "Bottom Gate Drive. Drives the gate of the bottom N-channel MOSFET between ground and INTVCC.", 24 PGND (power) "Power Ground. Connect this pin closely to the source of the bottom N-channel MOSFET, the (-) terminal of CVCC and the (-) terminal of CIN.", 25 SENSE+ (in) "Current Sense Comparator Input. The (+) input to the current comparator is normally connected to the SW pin unless using a sense resistor (see Applications Information).", 26 SW "Switch Node. The (-) terminal of the bootstrap capacitor CB connects here. This pin swings from a diode voltage drop below ground up to VIN.", 27 TG (out) "Top Gate Drive. Drives the top N-channel MOSFET with a voltage swing equal to INTVCC superimposed on the switch node voltage SW.", 28 BOOST "Boosted Floating Driver Supply. The (+) terminal of the bootstrap capacitor CB connects here. This pin swings from a diode voltage drop below INTVCC up to VIN + INTVCC."